# EAGLE library part _EMB_ESP_WROOM_02D_(M1102H1600PH3Q0) (library SamacSys_Parts)
WiFi Modules (802.11) SMD MODULE,ESP8266EX 2MBITS SPI FLASH Source: Datasheet <https://www.espressif.com/sites/default/files/documentation/esp-wroom-02u_esp-wroom-02d_datasheet_en.pdf>
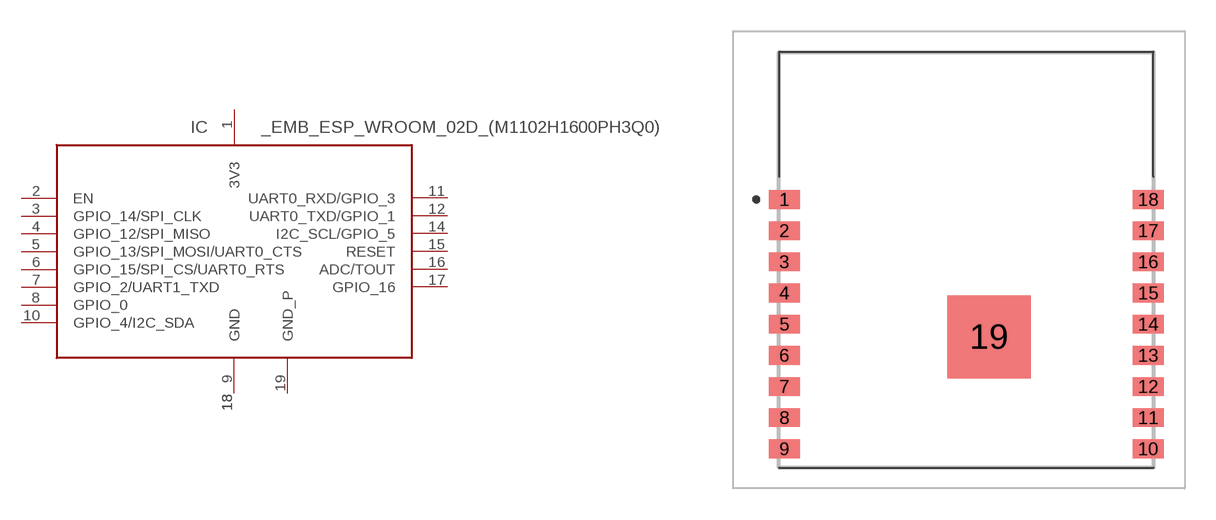
[diagram p15: symbol with the pads of ESPWROOM02DM1102H1600PH3Q0; footprint ESPWROOM02DM1102H1600PH3Q0]

Designator prefix IC

## _EMB_ESP_WROOM_02D_(M1102H1600PH3Q0) (DESCRIPTION: WiFi Modules (802.11) SMD MODULE,ESP8266EX 2MBITS SPI FLASH; HEIGHT: 3.3mm; MANUFACTURER_NAME: Espressif Systems; MANUFACTURER_PART_NUMBER: ESP-WROOM-02D(M1102H1600PH3Q0); MOUSER_PART_NUMBER: 356-ESPWROOM-02D; MOUSER_PRICE-STOCK: https://www.mouser.co.uk/ProductDetail/Espressif-Systems/ESP-WROOM-02DM1102H1600PH3Q0/?qs=W%2FMpXkg%252BdQ7uLx0o5BFnuQ%3D%3D)  [ESPWROOM02DM1102H1600PH3Q0]
1  3V3
2  EN
3  GPIO_14/SPI_CLK
4  GPIO_12/SPI_MISO
5  GPIO_13/SPI_MOSI/UART0_CTS
6  GPIO_15/SPI_CS/UART0_RTS
7  GPIO_2/UART1_TXD
8  GPIO_0
9  GND
10  GPIO_4/I2C_SDA
11  UART0_RXD/GPIO_3
12  UART0_TXD/GPIO_1
13  GND_2
14  I2C_SCL/GPIO_5
15  RESET
16  ADC/TOUT
17  GPIO_16
18  GND_3
19  GND_P

## Footprint ESPWROOM02DM1102H1600PH3Q0 (pad centres in mm)
ESP-WROOM-02D(M1102H1600PH3Q0)-1
smd 1.5 x 0.9: 1 -8.4,2.9; 2 -8.4,1.4; 3 -8.4,-0.1; 4 -8.4,-1.6; 5 -8.4,-3.1; 6 -8.4,-4.6; 7 -8.4,-6.1; 8 -8.4,-7.6; 9 -8.4,-9.1; 10 9.1,-9.1; 11 9.1,-7.6; 12 9.1,-6.1; 13 9.1,-4.6; 14 9.1,-3.1; 15 9.1,-1.6; 16 9.1,-0.1; 17 9.1,1.4; 18 9.1,2.9
smd 4 x 4: 19 1.45,-3.71